# Altium footprint library 光电隔离器.PcbLib: 17 footprints (part 1 of 2)
Each footprint in its own frame and in the unit in brackets; x right, y up, seen from the top. Pads: shape width x height; smd on the part's side, far side on the other; paste and mask are expansions set on the pad; w line width, h text height; cw(c..) or ccw(c..) is an arc to the next point about the centre after c.
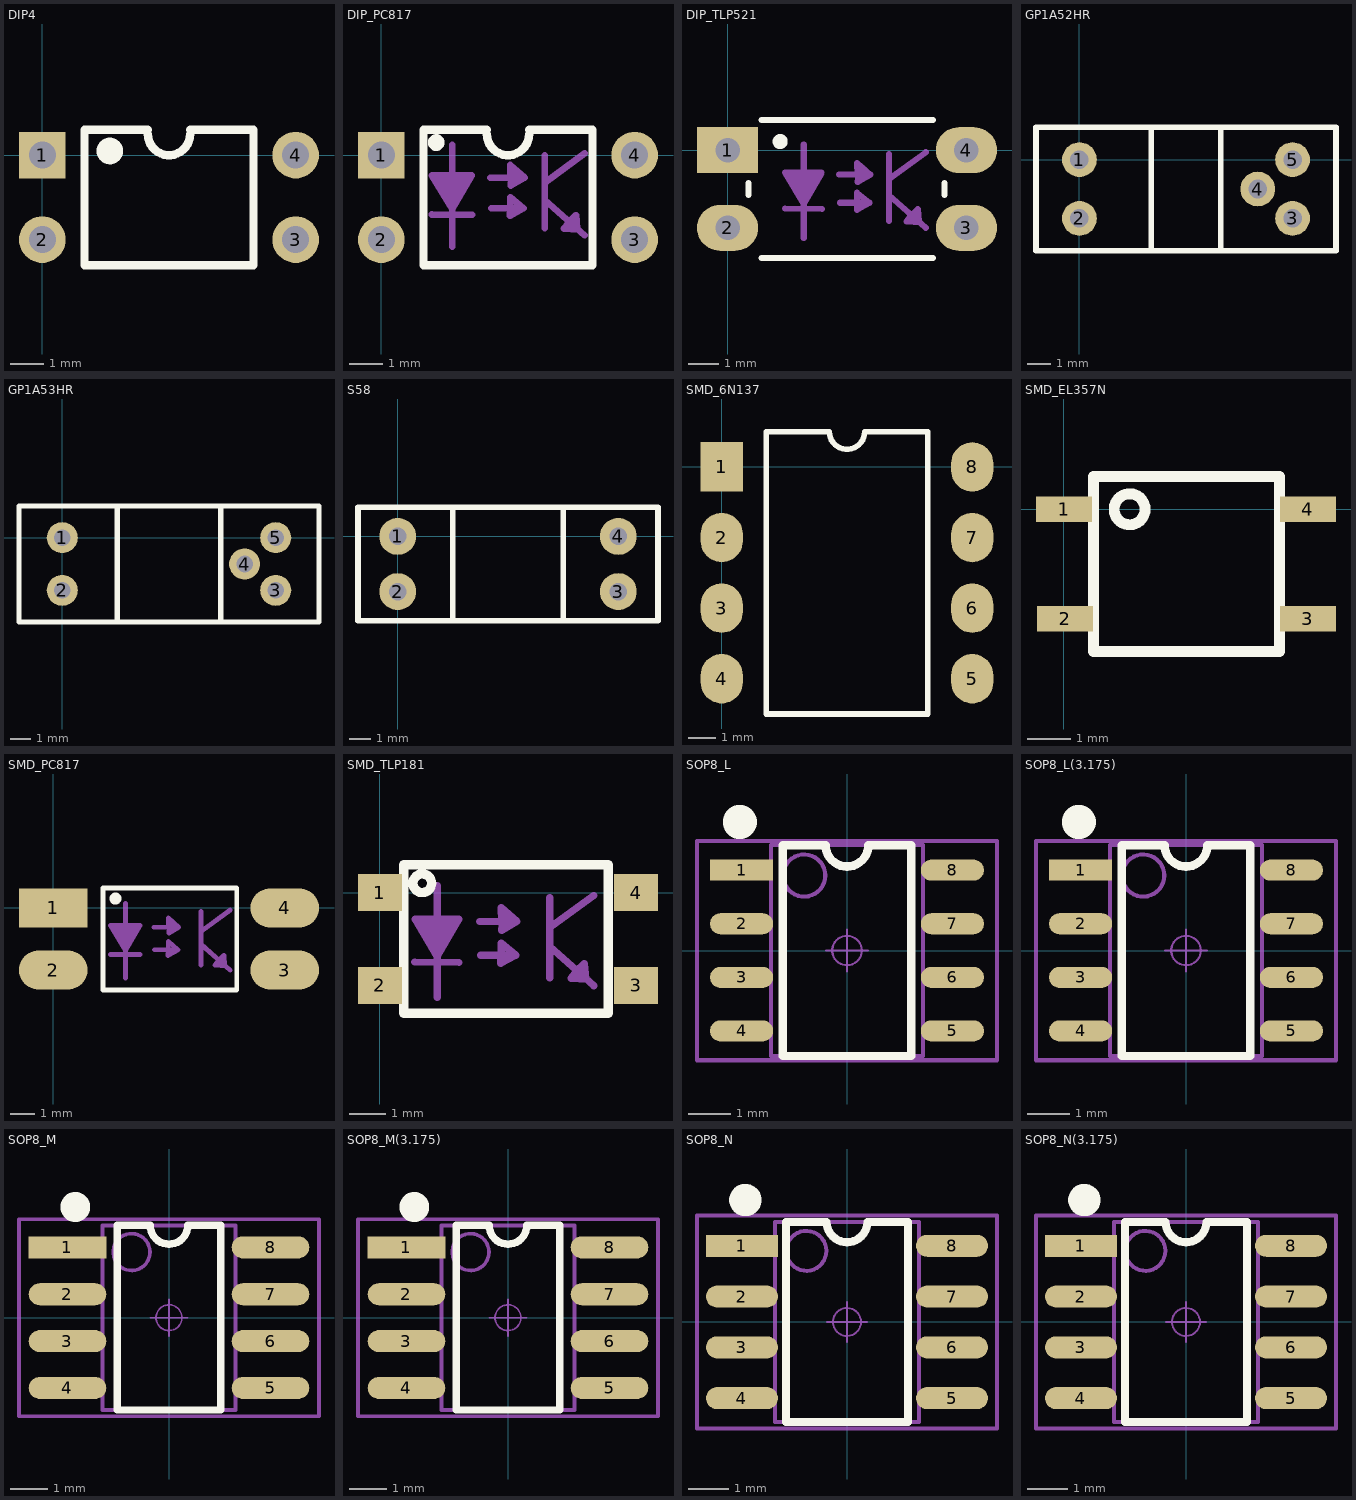
[diagram p0: the footprints below, top view; thin cyan lines are the x and y axes]

## DIP4 [mm]
pads (4):
  rect 1.4x1.4 hole 0.813: 1(0,0)
  round 1.4 hole 0.813: 2(0,-2.54) 3(7.62,-2.54) 4(7.62,0)
Top Overlay:
  circle w0.5: c2.032,0.127 r0.15
  lines w0.254: 3.175,0.635 ccw(c3.81,0.635) 4.445,0.635 ; 3.175,0.762 1.27,0.762 1.27,-3.302 6.35,-3.302 6.35,0.762 4.445,0.762
3D body "DIP4.STEP": height 3.6, standoff -3.7, extent -0.125,-3.564 7.745,1.016

## DIP_PC817 [mm]
pads (4):
  rect 1.4x1.4 hole 0.813: 1(0,0)
  round 1.4 hole 0.813: 2(0,-2.54) 3(7.62,-2.54) 4(7.62,0)
Top Overlay:
  circle w0.254: c1.651,0.381 r0.127
  lines w0.254: 3.175,0.635 ccw(c3.81,0.635) 4.445,0.635 ; 3.175,0.762 1.27,0.762 1.27,-3.302 6.35,-3.302 6.35,0.762 4.445,0.762
Mechanical 3:
  region: 1.49,-0.726 1.928,-1.34 2.218,-1.134 1.78,-0.519
  region: 2.186,-1.434 2.666,-0.719 2.371,-0.521 1.891,-1.236
  rectangle: 1.854,-0.984 2.503,-0.61
  lines w0.2: 1.516,-1.783 2.726,-1.793 ; 2.134,-2.743 2.134,0.305 ; 3.286,-0.673 4.306,-0.673 ; 3.316,-1.593 4.276,-1.593 ; 3.886,-0.673 3.876,-0.293 4.306,-0.673 ; 4.06,-0.456 3.916,-0.673 3.896,-0.913 4.306,-0.673 ; 4.916,-2.193 4.916,-0.003 ; 4.916,-1.343 6.119,-2.41 ; 4.916,-0.823 6.116,0.056 ; 5.895,-2.211 5.855,-1.803 5.654,-1.997 5.495,-2.203 5.919,-2.233 ; 4.276,-1.593 3.876,-1.263 3.876,-1.593 3.866,-1.823 4.276,-1.593 ; 1.524,-0.61 2.718,-0.61 2.134,-1.626 1.524,-0.61
3D body "DIP-PC817.STEP": height 4.3, standoff -2.7, extent -0.133,-3.565 7.747,1.025

## DIP_TLP521 [mm]
pads (4):
  rect 2x1.5 hole 0.8 mask+0: 1(0,0)
  oval 2x1.5 hole 0.8 mask+0: 2(0,-2.54) 3(7.8,-2.54) 4(7.8,0)
Top Overlay:
  circle w0.3: c1.716,0.28 r0.096
  lines w0.2: 0.686,-1.47 0.686,-1.07 ; 1.111,-3.52 6.711,-3.52 ; 1.111,0.98 6.711,0.98 ; 7.086,-1.47 7.086,-1.07
Mechanical 3:
  rectangle: 2.209,-1.111 2.858,-0.737
  region: 2.541,-1.561 3.021,-0.846 2.726,-0.648 2.246,-1.363
  region: 1.845,-0.853 2.283,-1.467 2.573,-1.261 2.135,-0.646
  lines w0.2: 1.871,-1.91 3.081,-1.92 ; 2.489,-2.87 2.489,0.178 ; 3.641,-0.8 4.661,-0.8 ; 3.671,-1.72 4.631,-1.72 ; 4.241,-0.8 4.231,-0.42 4.661,-0.8 ; 4.416,-0.583 4.271,-0.8 4.251,-1.04 4.661,-0.8 ; 5.271,-2.32 5.271,-0.13 ; 5.271,-1.47 6.474,-2.537 ; 5.271,-0.95 6.471,-0.071 ; 6.25,-2.338 6.21,-1.93 6.009,-2.124 5.85,-2.33 6.274,-2.36 ; 4.631,-1.72 4.221,-1.95 4.231,-1.72 4.231,-1.39 4.631,-1.72 ; 1.879,-0.737 2.489,-1.753 3.073,-0.737 1.879,-0.737

## GP1A52HR [mm] "长: 12.5mm,宽:5mm,高:10mm,槽宽:3mm"
pads (5):
  round 1.5 hole 0.8: 1(0,0) 2(0,-2.54) 3(9.2,-2.54) 4(7.7,-1.27) 5(9.2,0)
Top Overlay:
  lines w0.25: 3.1,-3.937 3.1,1.397 ; 6.1,-3.937 6.1,1.397 ; -1.877,-3.937 -1.877,1.397 11.077,1.397 11.077,-3.937 -1.877,-3.937
3D body "GP1A52HR.STEP": height 10.05, standoff -3.15, extent -1.651,-3.77 10.849,1.23

## GP1A53HR [mm] "长: 14mm,宽:5.2mm,高:10mm,槽宽:5mm"
pads (5):
  round 1.5 hole 0.8: 1(0,0) 2(0,-2.54) 3(10.3,-2.54) 4(8.8,-1.27) 5(10.3,0)
Top Overlay:
  lines w0.25: 2.65,-3.937 2.65,1.397 ; 7.65,-3.937 7.65,1.397 ; -2.089,-4.064 -2.089,1.524 12.389,1.524 12.389,-4.064 -2.089,-4.064
3D body "GP1A53HR.STEP": height 10.05, standoff -3.15, extent -1.793,-3.803 12.207,1.397

## S58 [mm] "对射型光耦"
pads (4):
  round 1.7 hole 0.8: 1(0,0) 2(0,-2.54) 3(10.16,-2.54) 4(10.16,0)
Top Overlay:
  lines w0.254: 2.54,-3.886 2.54,1.346 ; 7.62,-3.81 7.62,1.27 ; -1.829,-3.886 11.989,-3.886 11.989,1.346 0,1.346 -1.829,1.346 -1.829,-3.886
3D body "S58.STEP": height 10, standoff -3.5, extent -1.82,-3.803 11.98,1.397

## SMD_6N137 [mm]
pads (8):
  rect 1.52x1.78 smd: 1(0,0)
  oval 1.52x1.78 smd: 2(0,-2.54) 3(0,-5.08) 4(0,-7.62) 5(9.015,-7.62) 6(9.015,-5.08) 7(9.015,-2.54) 8(9.015,0)
Top Overlay:
  lines w0.2: 1.595,-8.89 1.595,1.27 3.872,1.27 ccw(c4.507,1.27) 5.142,1.27 7.42,1.27 7.42,-8.89 1.595,-8.89
3D body "SMD-6N137.STEP": height 5.08, standoff 0, extent -0.578,-8.767 9.722,1.143

## SMD_EL357N [mm]
pads (4):
  rect 1.3x0.6 smd mask+0: 1(0,0) 2(0.026,-2.54) 3(5.664,-2.54) 4(5.664,0)
Top Overlay:
  circle w0.254: c1.524,0 r0.359
  lines w0.254: 0.686,-3.302 0.686,0.762 5.004,0.762 5.004,-3.302 0.686,-3.302

## SMD_PC817 [mm]
pads (4):
  rect 2.8x1.6 smd mask+0: 1(0,0)
  oval 2.8x1.6 smd mask+0: 2(0,-2.54) 3(9.452,-2.54) 4(9.452,0)
Top Overlay:
  circle w0.3: c2.54,0.381 r0.096
  lines w0.2: 2.032,-3.36 2.032,0.82 7.493,0.82 7.493,-3.36 2.032,-3.36
Mechanical 3:
  region: 2.309,-0.843 2.747,-1.457 3.036,-1.251 2.598,-0.636
  region: 3.005,-1.551 3.485,-0.836 3.189,-0.638 2.71,-1.353
  rectangle: 2.673,-1.101 3.321,-0.727
  lines w0.2: 2.335,-1.9 3.545,-1.91 ; 2.952,-2.86 2.952,0.188 ; 4.105,-0.79 5.125,-0.79 ; 4.135,-1.71 5.095,-1.71 ; 4.705,-0.79 4.695,-0.41 5.125,-0.79 ; 4.879,-0.573 4.735,-0.79 4.715,-1.03 5.125,-0.79 ; 6.026,-2.33 6.026,-0.14 ; 6.026,-1.48 7.229,-2.547 ; 6.026,-0.96 7.225,-0.081 ; 7.005,-2.348 6.965,-1.94 6.763,-2.134 6.605,-2.34 7.029,-2.37 ; 5.095,-1.71 4.695,-1.38 4.695,-1.71 4.685,-1.94 5.095,-1.71 ; 2.343,-0.727 3.536,-0.727 2.952,-1.743 2.343,-0.727
3D body "SMD-PC817.STEP": height 3.85, standoff 0, extent -0.301,-3.56 9.699,1.02

## SMD_TLP181 [mm]
pads (4):
  rect 1.2x1 smd mask+0: 1(0,0) 2(0,-2.54) 3(7,-2.54) 4(7,0)
Top Overlay:
  circle w0.254: c1.158,0.254 r0.254
  lines w0.254: 0.65,-3.302 6.238,-3.302 6.238,0.762 0.65,0.762 0.65,-3.302
Mechanical 3:
  region: 0.927,-0.843 1.365,-1.457 1.654,-1.251 1.216,-0.636
  region: 1.623,-1.551 2.103,-0.836 1.807,-0.638 1.328,-1.353
  rectangle: 1.291,-1.101 1.939,-0.727
  lines w0.2: 0.953,-1.9 2.163,-1.91 ; 1.57,-2.86 1.57,0.188 ; 2.723,-0.79 3.743,-0.79 ; 2.753,-1.71 3.713,-1.71 ; 3.323,-0.79 3.313,-0.41 3.743,-0.79 ; 3.497,-0.573 3.353,-0.79 3.333,-1.03 3.743,-0.79 ; 4.644,-2.33 4.644,-0.14 ; 4.644,-1.48 5.847,-2.547 ; 4.644,-0.96 5.843,-0.081 ; 5.623,-2.348 5.583,-1.94 5.381,-2.134 5.223,-2.34 5.647,-2.37 ; 3.713,-1.71 3.313,-1.38 3.313,-1.71 3.303,-1.94 3.713,-1.71 ; 0.961,-0.727 2.154,-0.727 1.57,-1.743 0.961,-0.727

## SOP8_L [mm] "5*6*1.8mm（长宽高）"
height 1.75
pads (8):
  rect 1.5x0.5 smd: 1(-2.5,1.905)
  oval 1.5x0.5 smd: 2(-2.5,0.635) 3(-2.5,-0.635) 4(-2.5,-1.905) 5(2.5,-1.905) 6(2.5,-0.635) 7(2.5,0.635) 8(2.5,1.905)
Top Overlay:
  circle w0.5: c-2.54,3.048 r0.155
  lines w0.2: -1.524,2.5 -1.524,-2.5 1.524,-2.5 1.524,2.5
  lines w0.203: -1.524,2.5 -0.508,2.5 ccw(c0,2.5) 0,1.992 ccw(c0,2.5) 0.508,2.5 1.524,2.5
Mechanical 13:
  circle w0.1: c-1.016,1.778 r0.5
  lines w0.1: -1.8,-2.5 -1.8,2.5 1.8,2.5 1.8,-2.5 -1.8,-2.5
Mechanical 15:
  circle w0.05: c0,0 r0.35
  lines w0.05: -0.5,0 0.5,0 ; 0,-0.5 0,0.5
  lines w0.1: -3.556,-2.6 -3.556,2.6 3.556,2.6 3.556,-2.6 -3.556,-2.6
3D body "SOP8.STEP": height 1.9, standoff 0, extent -3.003,-2.5 3.003,2.5

## SOP8_L(3.175) [mm] "5*6*1.8mm（长宽高）"
height 1.75
pads (8):
  rect 1.5x0.5 smd: 1(-2.5,1.905)
  oval 1.5x0.5 smd: 2(-2.5,0.635) 3(-2.5,-0.635) 4(-2.5,-1.905) 5(2.5,-1.905) 6(2.5,-0.635) 7(2.5,0.635) 8(2.5,1.905)
Top Overlay:
  circle w0.5: c-2.54,3.048 r0.155
  lines w0.2: -1.524,2.5 -1.524,-2.5 1.524,-2.5 1.524,2.5
  lines w0.203: -1.524,2.5 -0.508,2.5 ccw(c0,2.5) 0,1.992 ccw(c0,2.5) 0.508,2.5 1.524,2.5
Mechanical 13:
  circle w0.1: c-1.016,1.778 r0.5
  lines w0.1: -1.8,-2.5 1.8,-2.5 1.8,2.5 -1.8,2.5 -1.8,-2.5
Mechanical 15:
  circle w0.05: c0,0 r0.35
  lines w0.05: -0.5,0 0.5,0 ; 0,-0.5 0,0.5
  lines w0.1: -3.556,-2.6 3.556,-2.6 3.556,2.6 -3.556,2.6 -3.556,-2.6
3D body "User Library-SO8-HCPL.STEP": height 3.33, standoff -0.4, extent -3.003,-2.511 3.003,2.489

## SOP8_M [mm] "5*6*1.8mm（长宽高）"
height 1.75
pads (8):
  rect 2.1x0.6 smd: 1(-2.75,1.905)
  oval 2.1x0.6 smd: 2(-2.75,0.635) 3(-2.75,-0.635) 4(-2.75,-1.905) 5(2.75,-1.905) 6(2.75,-0.635) 7(2.75,0.635) 8(2.75,1.905)
Top Overlay:
  circle w0.5: c-2.54,3 r0.155
  lines w0.2: -1.397,2.5 -1.397,-2.5 1.397,-2.5 1.397,2.5
  lines w0.203: -1.397,2.5 -0.508,2.5 ccw(c0,2.5) 0,1.992 ccw(c0,2.5) 0.508,2.5 1.397,2.5
Mechanical 13:
  circle w0.1: c-1.016,1.778 r0.5
  lines w0.1: -1.8,-2.5 -1.8,2.5 1.8,2.5 1.8,-2.5 -1.8,-2.5
Mechanical 15:
  circle w0.05: c0,0 r0.35
  lines w0.05: -0.5,0 0.5,0 ; 0,-0.5 0,0.5
  lines w0.1: -4.064,-2.667 -4.064,2.667 4.064,2.667 4.064,-2.667 -4.064,-2.667
3D body "SOP8.STEP": height 1.9, standoff 0, extent -3.003,-2.5 3.003,2.5

## SOP8_M(3.175) [mm] "5*6*1.8mm（长宽高）"
height 1.75
pads (8):
  rect 2.1x0.6 smd: 1(-2.75,1.905)
  oval 2.1x0.6 smd: 2(-2.75,0.635) 3(-2.75,-0.635) 4(-2.75,-1.905) 5(2.75,-1.905) 6(2.75,-0.635) 7(2.75,0.635) 8(2.75,1.905)
Top Overlay:
  circle w0.5: c-2.54,3 r0.155
  lines w0.2: -1.397,2.5 -1.397,-2.5 1.397,-2.5 1.397,2.5
  lines w0.203: -1.397,2.5 -0.508,2.5 ccw(c0,2.5) 0,1.992 ccw(c0,2.5) 0.508,2.5 1.397,2.5
Mechanical 13:
  circle w0.1: c-1.016,1.778 r0.5
  lines w0.1: -1.8,-2.5 1.8,-2.5 1.8,2.5 -1.8,2.5 -1.8,-2.5
Mechanical 15:
  circle w0.05: c0,0 r0.35
  lines w0.05: -0.5,0 0.5,0 ; 0,-0.5 0,0.5
  lines w0.1: -4.064,-2.667 4.064,-2.667 4.064,2.667 -4.064,2.667 -4.064,-2.667
3D body "User Library-SO8-HCPL.STEP": height 3.33, standoff -0.4, extent -3.003,-2.511 3.003,2.489

## SOP8_N [mm] "5*6*1.8mm（长宽高）"
height 1.75
pads (8):
  rect 1.8x0.55 smd: 1(-2.625,1.905)
  oval 1.8x0.55 smd: 2(-2.625,0.635) 3(-2.625,-0.635) 4(-2.625,-1.905) 5(2.625,-1.905) 6(2.625,-0.635) 7(2.625,0.635) 8(2.625,1.905)
Top Overlay:
  circle w0.5: c-2.54,3.048 r0.155
  lines w0.2: -1.524,2.5 -1.524,-2.5 1.524,-2.5 1.524,2.5
  lines w0.203: -1.524,2.5 -0.508,2.5 ccw(c0,2.5) 0,1.992 ccw(c0,2.5) 0.508,2.5 1.524,2.5
Mechanical 13:
  circle w0.1: c-1.016,1.778 r0.5
  lines w0.1: -1.8,-2.5 1.8,-2.5 1.8,2.5 -1.8,2.5 -1.8,-2.5
Mechanical 15:
  circle w0.05: c0,0 r0.35
  lines w0.05: -0.5,0 0.5,0 ; 0,-0.5 0,0.5
  lines w0.1: -3.75,-2.667 -3.75,2.667 3.75,2.667 3.75,-2.667 -3.75,-2.667
3D body "SOP8.STEP": height 1.9, standoff 0, extent -3.003,-2.5 3.003,2.5

## SOP8_N(3.175) [mm] "5*6*1.8mm（长宽高）"
height 1.75
pads (8):
  rect 1.8x0.55 smd: 1(-2.625,1.905)
  oval 1.8x0.55 smd: 2(-2.625,0.635) 3(-2.625,-0.635) 4(-2.625,-1.905) 5(2.625,-1.905) 6(2.625,-0.635) 7(2.625,0.635) 8(2.625,1.905)
Top Overlay:
  circle w0.5: c-2.54,3.048 r0.155
  lines w0.2: -1.524,2.5 -1.524,-2.5 1.524,-2.5 1.524,2.5
  lines w0.203: -1.524,2.5 -0.508,2.5 ccw(c0,2.5) 0,1.992 ccw(c0,2.5) 0.508,2.5 1.524,2.5
Mechanical 13:
  circle w0.1: c-1.016,1.778 r0.5
  lines w0.1: -1.8,-2.5 -1.8,2.5 1.8,2.5 1.8,-2.5 -1.8,-2.5
Mechanical 15:
  circle w0.05: c0,0 r0.35
  lines w0.05: -0.5,0 0.5,0 ; 0,-0.5 0,0.5
  lines w0.1: -3.75,-2.667 3.75,-2.667 3.75,2.667 -3.75,2.667 -3.75,-2.667
3D body "User Library-SO8-HCPL.STEP": height 3.33, standoff -0.4, extent -3.003,-2.511 3.003,2.489